# EAGLE library part MCP73871 (library lightmeter)
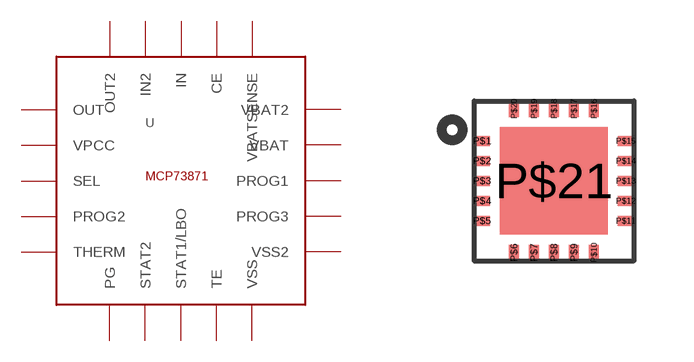
[diagram p15: symbol with the pads of QFN20; footprint QFN20]

Designator prefix -

## MCP73871  [QFN20]
P$1  OUT
P$2  VPCC
P$3  SEL
P$4  PROG2
P$5  THERM
P$6  PG
P$7  STAT2
P$8  STAT1/LBO
P$9  TE
P$10  VSS
P$11  VSS2
P$12  PROG3
P$13  PROG1
P$14  VBAT
P$15  VBAT2
P$16  VBATSENSE
P$17  CE
P$18  IN
P$19  IN2
P$20  OUT2
P$21  VSS2

## Footprint QFN20 (pad centres in mm)
smd 0.4 x 0.25: P$1 -1.8,1; P$2 -1.8,0.5; P$3 -1.8,0; P$4 -1.8,-0.5; P$5 -1.8,-1; P$11 1.8,-1; P$12 1.8,-0.5; P$13 1.8,0; P$14 1.8,0.5; P$15 1.8,1
smd 0.25 x 0.4: P$6 -1,-1.8; P$7 -0.5,-1.8; P$8 0,-1.8; P$9 0.5,-1.8; P$10 1,-1.8; P$16 1,1.8; P$17 0.5,1.8; P$18 0,1.8; P$19 -0.5,1.8; P$20 -1,1.8
smd 2.7 x 2.7: P$21 0,0